# Altium schematic symbol library IC.SchLib: 14 symbols
Pins are listed as number, name and electrical type; pins without a type are passive.

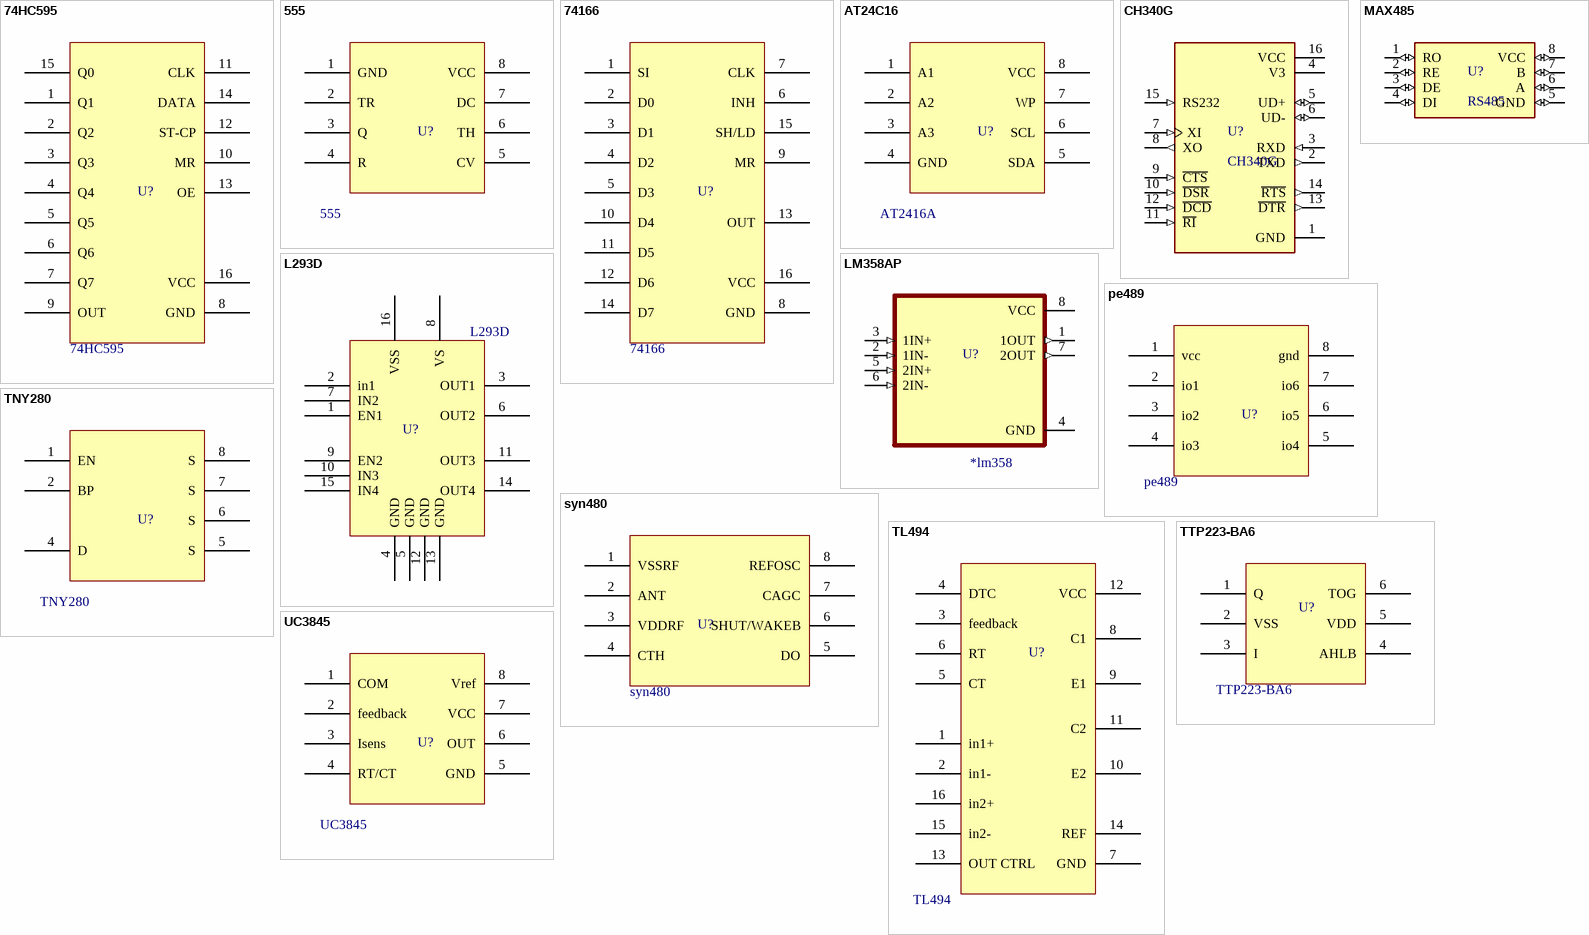
[diagram p0: symbols 74HC595 to UC3845]

## 74HC595
designator U?
VOLT: 5-12v; VALUE: 74HC595
footprint DIL16 (DIP, pitch 2.54mm, 300mil Width)
pins: 1 Q1, 2 Q2, 3 Q3, 4 Q4, 5 Q5, 6 Q6, 7 Q7, 8 GND, 9 OUT, 10 MR, 11 CLK, 12 ST-CP, 13 OE, 14 DATA, 15 Q0, 16 VCC

## 555
designator U?
VOLT: 7-20v; VALUE: 555
footprint DIL08 (DIP, pitch 2.54mm, 300mil Width)
footprint SO08
pins: 1 GND, 2 TR, 3 Q, 4 R, 5 CV, 6 TH, 7 DC, 8 VCC

## 74166
designator U?
VOLT: 5-12v; VALUE: 74166
footprint DIL16 (DIP, pitch 2.54mm, 300mil Width)
pins: 1 SI, 2 D0, 3 D1, 4 D2, 5 D3, 6 INH, 7 CLK, 8 GND, 9 MR, 10 D4, 11 D5, 12 D6, 13 OUT, 14 D7, 15 SH/LD, 16 VCC

## AT24C16
designator U?, comment AT2416A
VOLT: 1.25-5.5; VALUE: AT2416A
footprint DIL08 (DIP, pitch 2.54mm, 300mil Width)
footprint SO08
pins: 1 A1, 2 A2, 3 A3, 4 GND, 5 SDA, 6 SCL, 7 WP, 8 VCC

## CH340G
designator U?
USB Interface Integrated Circuit; VALU: CH340G
footprint SO16
pins: 1 GND (power), 2 TXD (out), 3 RXD (in), 4 V3 (power), 5 UD+ (io), 6 UD- (io), 7 XI (in), 8 XO (out), 9 ~{CTS} (in), 10 ~{DSR} (in), 11 ~{RI} (in), 12 ~{DCD} (in), 13 ~{DTR} (out), 14 ~{RTS} (out), 15 RS232 (in), 16 VCC (power)

## L293D
designator U?
VOLT: 7-30v; VALUE: L293D
footprint DIL16 (DIP, pitch 2.54mm, 300mil Width)
pins: 1 EN1, 2 in1, 3 OUT1, 4 GND, 5 GND, 6 OUT2, 7 IN2, 8 VS, 9 EN2, 10 IN3, 11 OUT3, 12 GND, 13 GND, 14 OUT4, 15 IN4, 16 VSS

## LM358AP
designator U?, comment *lm358
Value: *lm358
footprint DIL08 (DIP, pitch 2.54mm, 300mil Width)
pins: 1 1OUT (out), 2 1IN- (in), 3 1IN+ (in), 4 GND (power), 5 2IN+ (in), 6 2IN- (in), 7 2OUT (out), 8 VCC (power)

## MAX485
designator U?, comment RS485
1/1 Transceiver Half RS422, RS485 8-SOIC; Value: RS485
footprint DIL08 (DIP, pitch 2.54mm, 300mil Width)
pins: 1 RO (io), 2 RE (io), 3 DE (io), 4 DI (io), 5 GND (io), 6 A (io), 7 B (io), 8 VCC (io)

## pe489
designator U?
VOLT: 7-20v; VALUE: pe489
footprint SO08
pins: 1 vcc, 2 io1, 3 io2, 4 io3, 5 io4, 6 io5, 7 io6, 8 gnd

## syn480
designator U?
300-400mhz risiver; VOLT: 3-7v; VALUE: syn480
footprint SO08
pins: 1 VSSRF, 2 ANT, 3 VDDRF, 4 CTH, 5 DO, 6 SHUT/WAKEB, 7 CAGC, 8 REFOSC

## TL494
designator U?
VOLT: 7-40v; VALUE: TL494
footprint DIL16 (DIP, pitch 2.54mm, 300mil Width)
pins: 1 in1+, 2 in1-, 3 feedback, 4 DTC, 5 CT, 6 RT, 7 GND, 8 C1, 9 E1, 10 E2, 11 C2, 12 VCC, 13 OUT CTRL, 14 REF, 15 in2-, 16 in2+

## TNY280
designator U?
VOLT: 700V; VALUE: TNY280
footprint DIL07 (DIP, pitch 2.54mm, 300mil Width)
pins: 1 EN, 2 BP, 4 D, 5 S, 6 S, 7 S, 8 S

## TTP223-BA6
designator U?
VALUE: TTP223-BA6
footprint SOT-23-6 (SOT23, 6-Leads, Body 2.90x2.45mm, Pitch 0.95mm, IPC Medium Density)
pins: 1 Q, 2 VSS, 3 I, 4 AHLB, 5 VDD, 6 TOG

## UC3845
designator U?
VOLT: 7-20v; VALUE: UC3845
footprint DIL08 (DIP, pitch 2.54mm, 300mil Width)
pins: 1 COM, 2 feedback, 3 Isens, 4 RT/CT, 5 GND, 6 OUT, 7 VCC, 8 Vref